# EAGLE library part TDA7052A (library playPack)
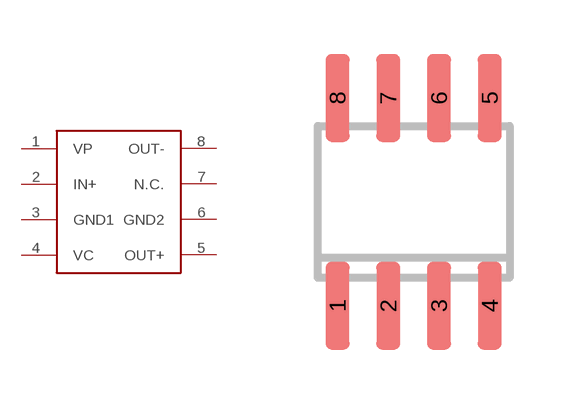
[diagram p0: symbol with the pads of SO8; footprint SO8]

Designator prefix -

## TDA7052A  [SO8]
1  VP
2  IN+
3  GND1
4  VC
5  OUT+
6  GND2
7  N.C.
8  OUT-

## Footprint SO8 (pad centres in mm)
smd 0.6 x 2.2: 1 0.635,1.21; 2 1.905,1.21; 3 3.175,1.21; 4 4.445,1.21; 5 4.445,6.41; 6 3.175,6.41; 7 1.905,6.41; 8 0.635,6.41